# Altium schematic symbol library Integrated Circuits.SchLib: 138 symbols (part 2 of 4)
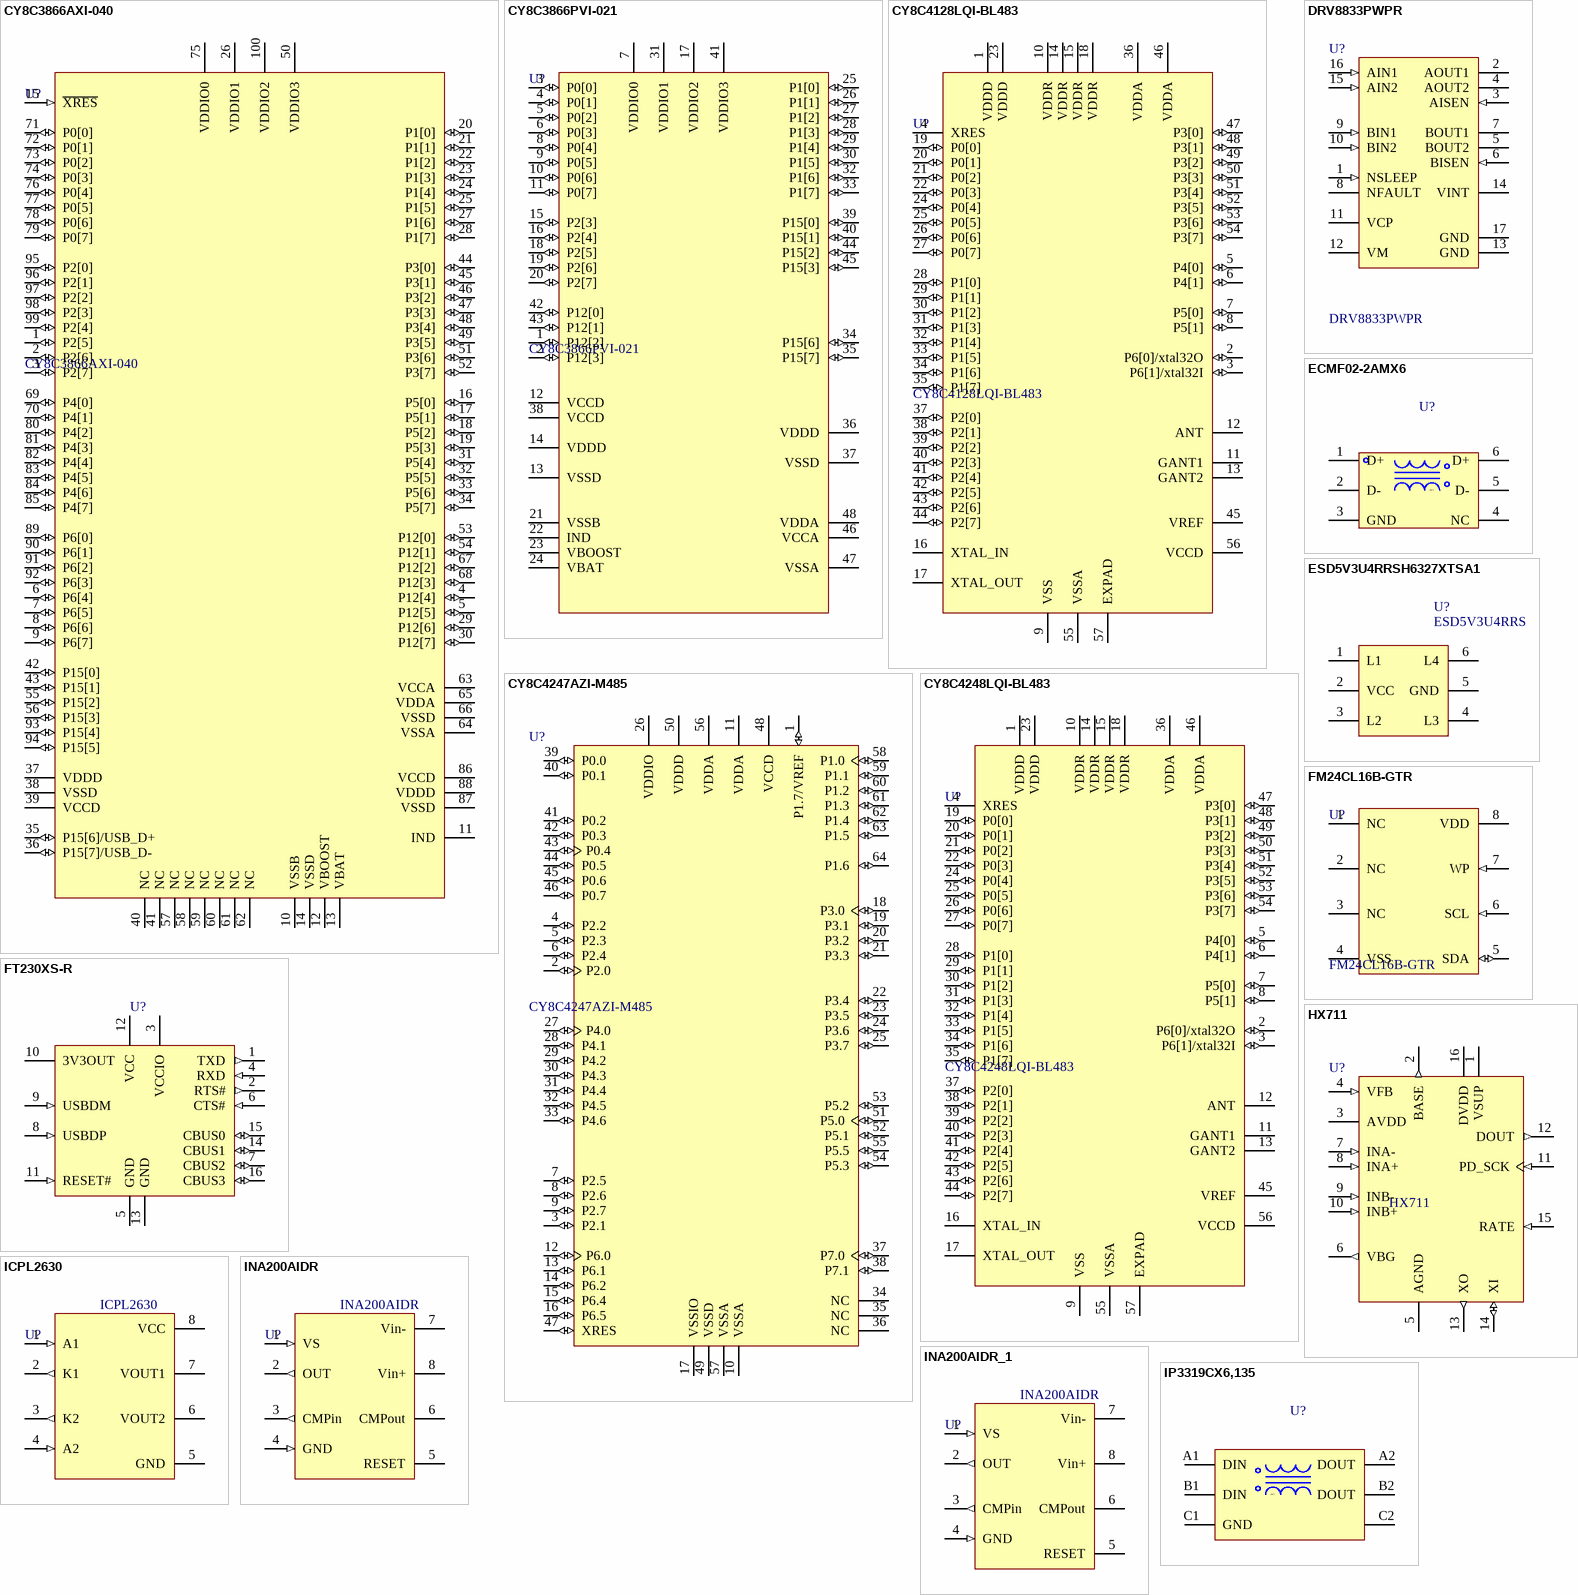
[diagram p7: symbols CY8C3866AXI-040 to IP3319CX6,135]

## ESD5V3U4RRSH6327XTSA1
designator U?, comment ESD5V3U4RRS
IC, TVS Array, 4 Data Lines, Uni-directional; Manufacturer: Infineon; Part Number: ESD5V3U4RRSH6327XTSA1; ComponentLink1Description: Supplier Link; ComponentLink1URL: http://www.digikey.com/product-detail/en/ESD5V3U4RRSH6327XTSA1/ESD5V3U4RRSH6327XTSA1CT-ND/4337015; HelpURL: C:\Dropbox\Component Datasheets\(U) Integrated Circuits\TVS\Infineon_esd5v3u4rrs.pdf; PackageDescription: SOT363; PackageReference: BCR108S
footprint SOT_23-6_MO-193-AA (SOT23, 6pin, 3mm x 3mm, 0.95 pitch)
pins: 1 L1 (oc), 2 VCC, 3 L2, 4 L3, 5 GND, 6 L4

## FM24CL16B-GTR
designator U?
IC, FRAM 16KBIT, 1MHZ, I2C; Manufacturer: Cypress Semiconductor; PackageDescription: 8-SOIC; ComponentLink1Description: Supplier Link; ComponentLink1URL: http://www.digikey.com/product-detail/en/FM24CL16B-GTR/428-3310-1-ND/3927550; PackageReference: 51-85066; Part Number: FM24CL16B-GTR; HelpURL: C:\Dropbox\Component Datasheets\(U) Integrated Circuits\NV Memory\FM24CL16B_16-Kbit.pdf
footprint SOIC-8_1.27P4.9X3.9_IPC7351A (SOIC, 8-Leads, Body 4.90x3.90mm, Pitch 1.27mm, IPC High Density)
footprint SOIC-8_1.27P4.9X3.9_short (SOIC, 8-Leads, Body 4.90x3.90mm, Pitch 1.27mm)
pins: 1 NC (power) "Supply Voltage Input", 2 NC, 3 NC, 4 VSS, 5 SDA (io) "Ground", 6 SCL (in), 7 WP (in), 8 VDD (power)

## FT230XS-R
designator U?
IC, USB serial basic UART, 16SSOP; Manufacturer: FTDI; ComponentLink1Description: Supplier Link; ComponentLink1URL: http://www.digikey.com/product-detail/en/ftdi-future-technology-devices-international-ltd/FT230XS-R/768-1135-1-ND/3029155; HelpURL: http://www.ftdichip.com/Support/Documents/DataSheets/ICs/DS_FT230X.pdf; PackageDescription: IC USB SERIAL BASIC UART 16SSOP; PackageReference: 16-SSOP; Part Number: FT230XS-R
footprint SSOP-16N_0.635P4.9x3.9 (SOP, 16-Leads, Body 4.9x3.9mm, Pitch 0.635mm, IPC Medium Density)
pins: 1 TXD (out) "Transmit Asynchronous Data Output.", 2 RTS# (out) "Request to Send Control Output / Handshake Signal.", 3 VCCIO (power) "1V8 -3V3 supply for the IO cells.", 4 RXD (in) "Receiving Asynchronous Data Input.", 5 GND (power) "0V Ground input.", 6 CTS# (in) "Clear To Send Control Input / Handshake Signal.", 7 CBUS2 (io) "Configurable CBUS I/O Pin. Function of this pin is configured in the device MTP memory. The default configuration is TXLED#.", 8 USBDP (in) "USB Data Signal Plus.", 9 USBDM (in) "USB Data Signal Minus.", 10 3V3OUT (power) "3V3 output at 50mA. May be used to power VCCIO. When VCC is 3V3; pin 10 is an input pin and should be connected to pin 12.", 11 RESET# (in) "Reset input (active low).", 12 VCC (power) "5 V (or 3V3) supply to IC.", 13 GND (power) "0V Ground input.", 14 CBUS1 (io) "Configurable CBUS I/O Pin. Function of this pin is configured in the device MTP memory. The default configuration is RXLED#.", 15 CBUS0 (io) "Configurable CBUS I/O Pin. Function of this pin is configured in the device MTP memory. The default configuration is TXDEN.", 16 CBUS3 (io) "Configurable CBUS I/O Pin. Function of this pin is configured in the device MTP memory. The default configuration is SLEEP#."

## HX711
designator U?
IC, ADC, 24bit, 2-CH, Load Cell Input; Manufacturer: Avia Semiconductor; PackageReference: SOP-16L; PackageDescription: SOIC-16; ComponentLink1Description: Manufacturer Link; ComponentLink1URL: http://www.aviaic.com/enindex.asp; ComponentLink2Description: Datasheet; ComponentLink2URL: http://www.aviaic.com/UpLoadFile/hx711_brief_en.pdf; Part Number: HX711
footprint SOIC-16_1.27P4.9X9.9 (SOIC, 16-Leads, Body 4.90x9.90mm, Pitch 1.27mm)
pins: 1 VSUP (power) "Regulator supply 2.7 to 5.5V", 2 BASE (out) "Regulator control output.", 3 AVDD (power) "Analog Supply 2.6 to 5.5V", 4 VFB (in) "Regulator control input", 5 AGND (power) "Analog Ground", 6 VBG (out) "Analog reference bypass output", 7 INA- (in) "Channel A negative input", 8 INA+ (in) "Channel A positive input", 9 INB- (in) "Channel B negative input", 10 INB+ (in) "Channel B positive input", 11 PD_SCK (in) "Serial Clock and power down control", 12 DOUT (out) "Serial data out", 13 XO (out) "Crystal I/O", 14 XI (io) "Crystal I/O or external CLK input", 15 RATE (in) "Output data rate control", 16 DVDD (power) "Digital supply 2.6 to 5.5V"

## ICPL2630
designator U?
IC, Opto Isolator, 5KV, 2-CH, 10Mbps; Manufacturer: Isocom Components; PackageDescription: 8-DIP; PackageReference: DIP; ComponentLink1URL: http://www.digikey.com/product-detail/en/ICPL2630/ICPL2630-ND/5037059; ComponentLink1Description: Supplier Link; PartNumber: ICPL2630
footprint PDIP-8_10.16X6.48 (8 Pin PDIP Package)
pins: 1 A1 (in), 2 K1 (out), 3 K2 (out), 4 A2 (in), 5 GND (power), 6 VOUT2 (oc), 7 VOUT1 (oc), 8 VCC

## INA200AIDR
designator U?  Part Number: INA200AIDR
IC, Current-Shunt Monitor, Open Drain Comparator; Manufacturer: Texas Instruments; PackageDescription: IC CURRENT SHUNT MONITOR 8SOIC; PackageReference: SOC; ComponentLink1URL: http://www.digikey.com/product-detail/en/texas-instruments/INA200AIDR/296-28959-1-ND/2682860; ComponentLink1Description: Supplier Link; HelpURL: http://www.ti.com/lit/ds/symlink/ina202.pdf
footprint D0008A_N (SOIC, 8-Leads, Body 5x4mm, Pitch 1.27mm, IPC Medium Density)
pins: 1 VS (in), 2 OUT (out), 3 CMPin (out), 4 GND (in), 5 RESET (power), 6 CMPout (oc), 7 Vin- (oc), 8 Vin+

## INA200AIDR_1
designator U?  Part Number: INA200AIDR
IC, Current-Shunt Monitor, Open Drain Comparator; Manufacturer: Texas Instruments; PackageDescription: 8-SOC; PackageReference: SOC; ComponentLink1URL: http://www.digikey.com/product-detail/en/texas-instruments/INA200AIDR/296-28959-1-ND/2682860; ComponentLink1Description: Supplier Link
footprint D0008A_N (SOIC, 8-Leads, Body 5x4mm, Pitch 1.27mm, IPC Medium Density)
pins: 1 VS (in), 2 OUT (out), 3 CMPin (out), 4 GND (in), 5 RESET (power), 6 CMPout (oc), 7 Vin- (oc), 8 Vin+

## IP3319CX6,135
designator U?  (value not drawn)
IC, Common Mode Filter + TVS, 2 USB Data Lines, Bi-directional; Manufacturer: NXP Semiconductors; ComponentLink1Description: Supplier Link; ComponentLink1URL: http://www.digikey.com/product-detail/en/nxp-semiconductors/IP3319CX6,135/568-10478-1-ND/4386063; HelpURL: http://www.nxp.com/documents/data_sheet/IP3319CX6.pdf; PackageDescription: 6WLCSP; PackageReference: 6WLCSP; Part Number: IP3319CX6,135
pins: A1 DIN, A2 DOUT, B1 DIN, B2 DOUT, C1 GND, C2
text: SMT

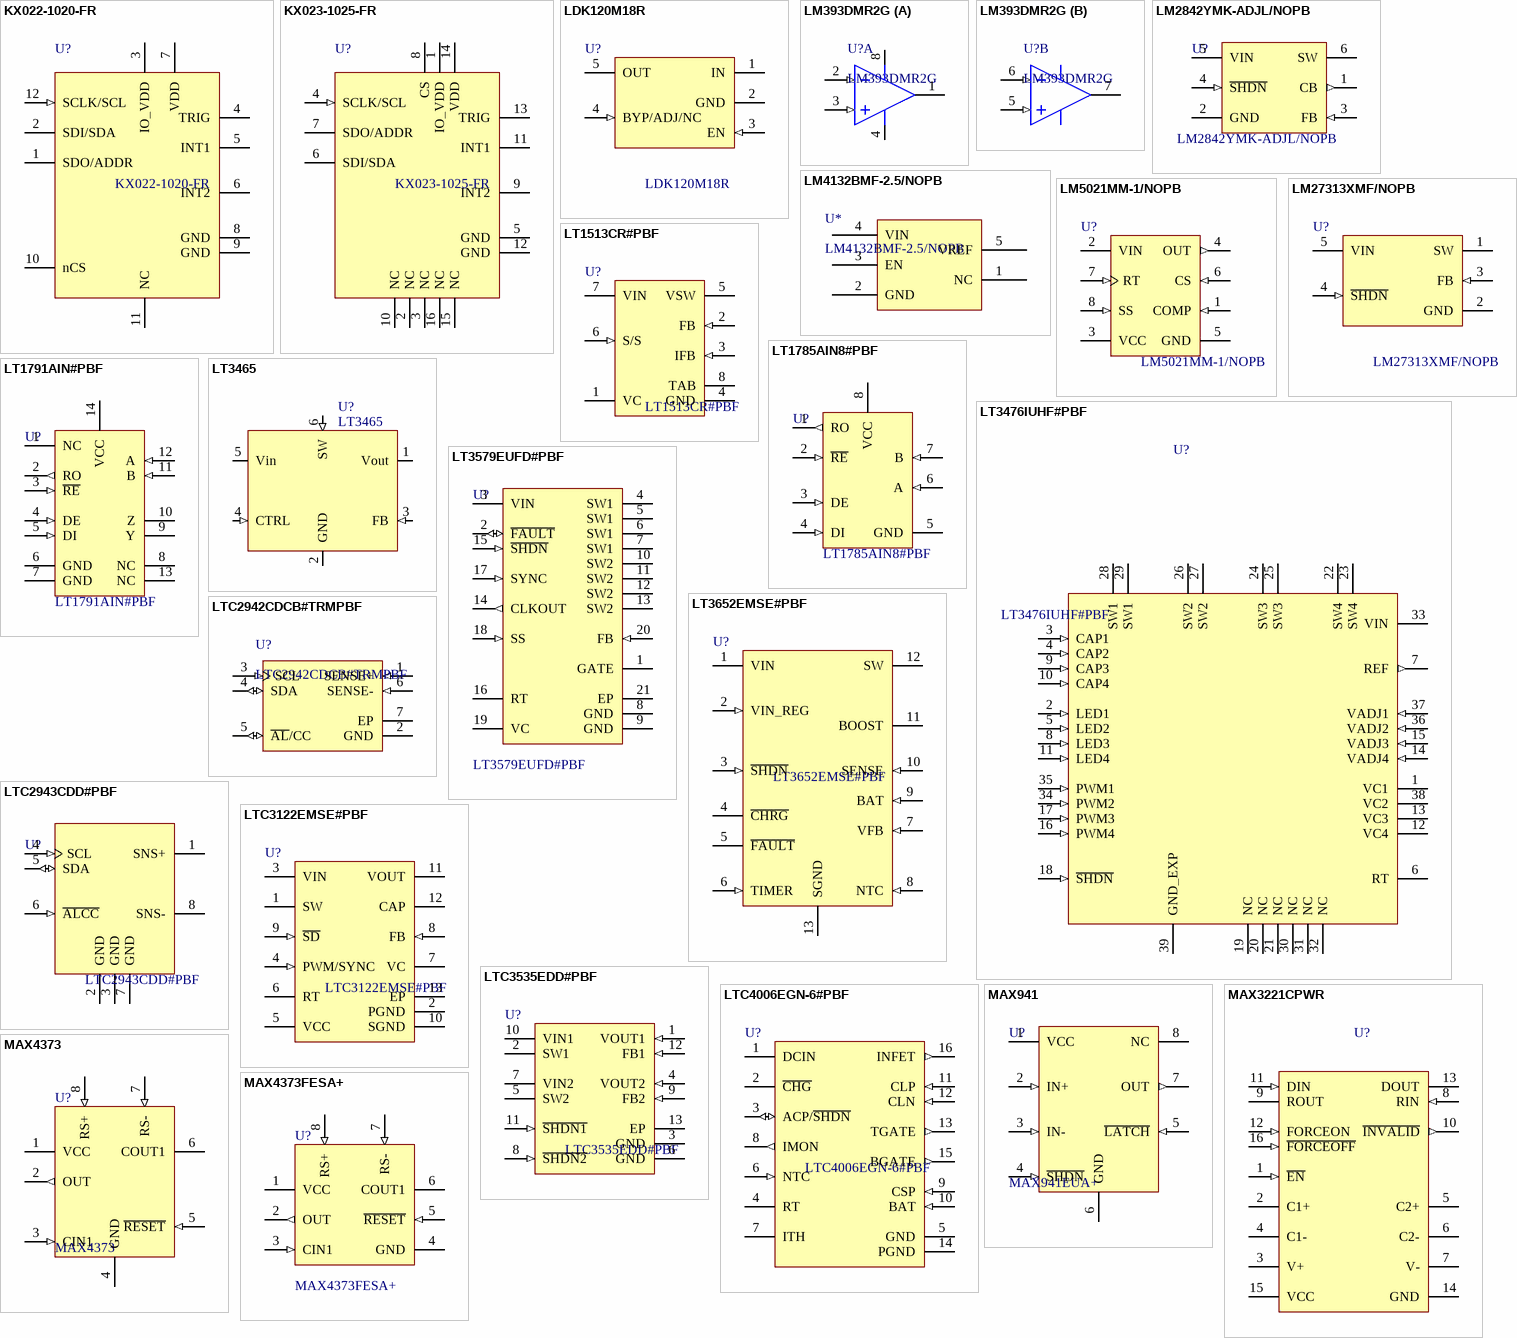
[diagram p3: symbols KX022-1020-FR to MAX4373FESA+]

## KX022-1020-FR
designator U?
IC, Accelerometer, 2-8G I2C/SPI, 12LGA; Manufacturer: Kionix; PackageReference: 12-VFLGA; PackageDescription: ACCELEROMETER 2-8G I2C/SPI 12LGA; ComponentLink1Description: Supplier Link; ComponentLink1URL: http://www.digikey.com/product-detail/en/kionix-inc/KX023-1025-FR/1191-1039-1-ND/4250335; HelpURL: http://kionixfs.kionix.com/en/datasheet/KX022-1020%20Specifications%20Rev%2012.0.pdf; Part Number: KX022-1020-FR
footprint LGA-12_N (LGA, 12-Leads, Body 2.00x2.00mm, Pitch 0.5mm)
pins: 1 SDO/ADDR "Soft start and watchdog timing capacitor terminal", 2 SDI/SDA "Watchdog input", 3 IO_VDD "On time setting terminal", 4 TRIG (power) "Switching regulator output", 5 INT1 "Current sense, limit setting for switching regulator", 6 INT2 "Feedback for Vsw", 7 VDD (power) "Ground", 8 GND (power) "Regulator 2 output", 9 GND "Boot node for LX", 10 nCS (oc) "Fault output", 11 NC "POR Delay", 12 SCLK/SCL (in) "Input Voltage 2"

## KX023-1025-FR
designator U?
IC, Accelerometer, 2-8G I2C/SPI, 16LGA; Manufacturer: Kionix; PackageReference: LP; PackageDescription: LGA, 16-Leads, Body 2.00x2.00mm, Pitch 0.5mm; ComponentLink1Description: Manufacturer Link; ComponentLink1URL: http://www.kionix.com/product/KX023-1025; ComponentLink2Description: Datasheet; ComponentLink2URL: http://www.digikey.com/product-detail/en/kionix-inc/KX023-1025-FR/1191-1039-1-ND/4250335; HelpURL: http://kionixfs.kionix.com/en/datasheet/KX023-1025%20Specifications%20Rev%2012.0.pdf; Part Number: KX023-1025-FR
footprint LGA-16 (LGA, 16-Leads, Body 2.00x2.00mm, Pitch 0.5mm)
pins: 1 IO_VDD "On time setting terminal", 2 NC (power) "Ground", 3 NC "Feedback for VLIN", 4 SCLK/SCL (in) "Input Voltage 2", 5 GND (power) "Regulator 2 output", 6 SDI/SDA "Watchdog input", 7 SDO/ADDR "Soft start and watchdog timing capacitor terminal", 8 CS (oc) "Fault output", 9 INT2 "Feedback for Vsw", 10 NC "POR Delay", 11 INT1 "Current sense, limit setting for switching regulator", 12 GND "Boot node for LX", 13 TRIG (power) "Switching regulator output", 14 VDD (power) "Ground", 15 NC "Input voltage 1", 16 NC "Enable input"

## LDK120M18R
designator U?
IC REG LDO 1.8V 0.2A SOT23-5; Manufacturer: STMelectronics; PackageDescription: SOT23-5; ComponentLink1Description: Supplier Link; ComponentLink1URL: http://www.digikey.com/product-detail/en/stmicroelectronics/LDK120M18R/497-13496-2-ND/3820953; HelpURL: http://www.st.com/content/ccc/resource/technical/document/datasheet/9d/8f/91/5b/5d/0b/49/3d/DM00070790.pdf/files/DM00070790.pdf/jcr:content/translations/en.DM00070790.pdf; Part Number: LDK120M18R
footprint SOT-23-5 (SOT23-5, 5pin, 3mm x 3mm, 0.95 pitch)
pins: 1 IN (power), 2 GND (power), 3 EN (in), 4 BYP/ADJ/NC (in), 5 OUT (power)

## LM393DMR2G
designator U?
IC, Comparator, Dual, LV offset,  Open Collector, 2-36Vin, MICRO-8; Manufacturer: On Semiconductor; HelpURL: http://www.onsemi.com/pub/Collateral/LM393-D.PDF; Package: 8-TSSOP, 8-MSOP; PartNumber: LM393DMR2G; ComponentLink1URL: http://www.digikey.com/product-detail/en/on-semiconductor/LM393DMR2G/LM393DMR2GOSCT-ND/1967053; ComponentLink1Description: Supplier Link; PackageReference: Micro8
footprint MICRO8 3.3X3.3.1 (Micro8, 8-Leads, Body 3.1x3.1mm, Pitch 0.65mm)
part A pins: 1 OUTA (oc), 2 INA- (in), 3 INA+ (in), 4 GND (power), 8 VCC (power)
part B pins: 5 INB+ (in), 6 INB- (in), 7 OUTB (oc)

## LM2842YMK-ADJL/NOPB
designator U?
IC, Vreg, Buck, 0.6A, 42V, TSOT23-6; Manufacturer: Texas Instruments; PackageReference: TSOT-23-6; PackageDescription: IC REG BUCK ADJ 0.6A TSOT23-6; Part Number: LM2842YMK-ADJL/NOPB; HelpURL: http://www.ti.com/lit/ds/symlink/lm2841.pdf; ComponentLink2Description: Datahseet; ComponentLink1URL: http://www.digikey.com/product-detail/en/texas-instruments/LM2842YMK-ADJL-NOPB/LM2842YMK-ADJL-NOPBCT-ND/2056743; ComponentLink1Description: Supplier Link
footprint SOT_23-6_MO-193-AA (SOT23, 6pin, 3mm x 3mm, 0.95 pitch)
pins: 1 CB (out), 2 GND (power), 3 FB (in), 4 ~{SHDN} (in), 5 VIN (power), 6 SW (power)

## LM4132BMF-2.5/NOPB
designator U*
IC, Voltage Reference, 4.096V, SOT23-5; Manufacturer: Texas Instruments; HelpURL: http://www.ti.com/lit/ds/symlink/lm4132.pdf; ComponentLink1URL: https://www.digikey.com/products/en?keywords=LM4132BMF-2.5/NOPBCT-ND; ComponentLink1Description: Supplier Link; PackageDescription: IC VREF SERIES 2.5V SOT23-5; Part Number: LM4132BMF-2.5/NOPB
footprint sot23-5
pins: 1 NC, 2 GND, 3 EN, 4 VIN, 5 VREF

## LM5021MM-1/NOPB
designator U?
IC, PWM Controller, AC-DC current mode, flyback; Manufacturer: Texas Instruments; PackageReference: 8-TSSOP; PackageDescription: 8-TSSOP, 8-MSOP (0.118", 3.00mm Width); ComponentLink1Description: Supplier Link; ComponentLink1URL: http://www.digikey.com/product-detail/en/texas-instruments/LM5021MM-1-NOPB/LM5021MM-1-NOPBCT-ND/953530; ComponentLink2Description: Datasheet; ComponentLink2URL: http://www.ti.com/lit/ds/symlink/lm5021.pdf; HelpURL: http://www.ti.com/lit/ds/symlink/lm5021.pdf; Part Number: LM5021MM-1/NOPB
footprint TSSOP-8_3x3 (TSOP, 8-Leads, Body 3x3mm, Pitch 0.65mm, IPC Medium Density)
pins: 1 COMP (in), 2 VIN (power), 3 VCC (power), 4 OUT (out), 5 GND (power), 6 CS (in), 7 RT (in), 8 SS (in)

## LM27313XMF/NOPB
designator U?
IC, Vreg, Boost, 800mA, 14.5Vmax Vin, SOT-753; Manufacturer: Texas Instruments; PackageReference: DBV; PackageDescription: IC REG BPPST ADK 0.8A SOT23-5; ComponentLink1Description: Supplier Link; ComponentLink1URL: http://www.digikey.com/product-detail/en/texas-instruments/LM27313XMF-NOPB/LM27313XMF-NOPBCT-ND/1590175; ComponentLink2Description: Datasheet; ComponentLink2URL: http://www.ti.com/lit/ds/symlink/lm27313.pdf; HelpURL: http://www.ti.com/lit/ds/symlink/lm27313.pdf; Part Number: LM27313XMF/NOPB
footprint SOT-23-5 (SOT23-5, 5pin, 3mm x 3mm, 0.95 pitch)
pins: 1 SW (power), 2 GND (power), 3 FB (in), 4 ~{SHDN} (in), 5 VIN (power)

## LT1513CR#PBF
designator U?
IC, Batt Charger, Constant Prog, Vsupp 25Vmax; Manufacturer: Linear Technology; PackageReference: TO-263-8; PackageDescription: D2Pak, (7leads + TAB); ComponentLink1Description: Supplier; ComponentLink1URL: http://www.digikey.com/product-detail/en/linear-technology/LT1513CR-PBF/LT1513CR-PBF-ND/888858; HelpURL: http://cds.linear.com/docs/en/datasheet/1513fas.pdf; Part Number: LT1513CR#PBF
footprint TO-263-8_LT-7 (DPAK, 7-Leads, Body 10.224x8.89mm, Pitch 1.27mm, IPC Medium Density)
pins: 1 VC "The compensation pin is primarily used for frequency compensation, but it can also be used for soft starting and current limiting. It is the output of the error amplifier and the input of the current comparator. Peak switch (See Datasheet)", 2 FB (in) "The feedback pin is used for positive output voltage sensing. The R1/R2 voltage divider connected to FB defines Li-Ion float voltage at full charge, or acts as a voltage limiter for NiCd or NiMH applications. FB is the (See Datasheet)", 3 IFB (in) "The current feedback pin is used to sense charging current. It is the input to a current sense amplifier that controls charging current when the battery voltage is below a programmed limit. During constant-current operation, (See Datasheet)", 4 GND (power) "The ground pin is common to both control circuitry and switch current. VC, FB and S/S signals must be Kelvin and connected as close as possible to this pin. The TAB of the R package should also be connected to the power (See Datasheet)", 5 VSW (power) "The switch pin is the collector of the power switch, carrying up to 3A of current with fast rise and fall times. Keep the traces on this pin as short as possible to minimize radiation and voltage spikes. In particular, the (See Datasheet)", 6 S/S (in) "This pin can be used for shutdown and/or synchronization. It is logic level compatible, but can be tied to VIN if desired. It defaults to a high ON state when floated. A logic low state will shut down the charger to a (See Datasheet)", 7 VIN (power) "The input supply pin should be bypassed with a low ESR capacitor located right next to the IC chip. The grounded end of the capacitor must be connected directly to the ground plane to which the TAB is connected.", 8 TAB (power) "The TAB on the surface mount R package is electrically connected to the ground pin, but a low inductance connection must be made to both the TAB and the pin for proper circuit operation. See suggested PC layout in Figure 4."

## LT1785AIN8#PBF
designator U?
IC, RS485/RS422 Transceiver, Half duplex, Fault Protected +/- 60 V, -40 to 85 degC, 14-PDIP; Manufacturer: Linear Technology; PackageDescription: 8 Lead PDIP; PackageReference: N8 package; ComponentLink1URL: http://www.digikey.com/product-search/en?vendor=0&keywords=LT1785AIN8%23PBF; ComponentLink1Description: Supplier Link; PartNumber: LT1785AIN8#PBF
footprint PDIP-8_10.16X6.48 (8 Pin PDIP Package)
pins: 1 RO (out), 2 ~{RE} (in) "Receiver Enable. A low input enables the receiver. A high input forces the receiver output into a high impedance state. If R\E\ is high with DE low, the part will enter a low power shutdown state.", 3 DE (in), 4 DI (in), 5 GND (power) "Ground.", 6 A (in), 7 B (in), 8 VCC (power)

## LT1791AIN#PBF
designator U?
IC, RS485/RS422 Transceiver, Fault Protected +/- 60 V, -40 to 85 degC, 14-PDIP; Manufacturer: Linear Technology; PackageDescription: 14 Lead PDIP; PackageReference: Rev. C; ComponentLink1URL: http://www.digikey.com/product-detail/en/LT1791AIN%23PBF/LT1791AIN%23PBF-ND/963309; ComponentLink1Description: Supplier Link; PartNumber: LT1791AIN#PBF
footprint PDIP-14_19.56X6.48 (14 Pin PDIP Package)
pins: 1 NC, 2 RO (out), 3 ~{RE} (in) "Receiver Enable. A low input enables the receiver. A high input forces the receiver output into a high impedance state. If R\E\ is high with DE low, the part will enter a low power shutdown state.", 4 DE (in), 5 DI (in), 6 GND (power) "Ground.", 7 GND (power) "Ground.", 8 NC, 9 Y (hiz), 10 Z (hiz), 11 B (in), 12 A (in), 13 NC, 14 VCC (power)

## LT3465
designator U?
IC, LED Driver, step-up; Manufacturer: Linear Tech; Part Number: LT3465AES6#TRMPBF; ComponentLink1Description: Manufacturer Link; ComponentLink1URL: http://www.linear.com/product/LT3465; HelpURL: C:\Dropbox\Component Datasheets\(U) Integrated Circuits\LED Drivers\Linear_LT3465fa.pdf; PackageDescription: SOT23-6; PackageReference: S6
footprint TSOP-6
pins: 1 Vout (oc), 2 GND (power), 3 FB (in), 4 CTRL (in), 5 Vin (power), 6 SW (in)

## LT3476IUHF#PBF
designator U?
IC, LED Driver, Buck Boost, 4-CH, 1.5A, 38-QFN; Manufacturer: Linear Technologies; ComponentLink1Description: Manufacturer's Link; ComponentLink2Description: Datasheet; ComponentLink1URL: http://www.linear.com/product/LT3476; HelpURL: http://cds.linear.com/docs/en/datasheet/3476fb.pdf; PackageDescription: IC LED DRVR RGLTR DIM 1.5A 38QFN; PackageReference: 38-QFN (5x7); Part Number: LT3476IUHF#PBF
footprint QFN-38_7.1x5.1 (QFN, 38-Leads, Body 7.1x5.1mm, Pitch 0.5mm, Thermal Pad 3.15x5.15mm, IPC Medium Density)
pins: 1 VC1 "Error Amplifier Compensation Pin. When PWM is low, VC pin floats external compensation capacitor to save state for next cycle.", 2 LED1 (in) "Non-Inverting Input of Current Sense Error Amplifier. Connect directly to LED current sense resistor terminal. Switcher will regulate this node to a voltage of 0.1• VADJ below the CAP node. Also connected to CAP nod(See Datasheet)", 3 CAP1 (in) "Inverting input of current sense error amplifier. Connect directly to other terminal of LED current sense resistor. Also connected to output filter capacitor and cathode of external Schottky rectifier. CAP greater than the (See Datasheet)", 4 CAP2 (in) "Inverting input of current sense error amplifier. Connect directly to other terminal of LED current sense resistor. Also connected to output filter capacitor and cathode of external Schottky rectifier. CAP greater than the (See Datasheet)", 5 LED2 (in) "Non-Inverting Input of Current Sense Error Amplifier. Connect directly to LED current sense resistor terminal. Switcher will regulate this node to a voltage of 0.1• VADJ below the CAP node. Also connected to CAP nod(See Datasheet)", 6 RT "Oscillator Programming Pin. Place resistor connected to GND to program oscillator frequency.", 7 REF (out) "Reference Output Pin. Connect to VADJ pin to get full-scale LED current. Connect to resistor dividers to program VADJ pins to values lower than 1.05 V. Bypass to local GND with 0.1 uF capacitor.", 8 LED3 (in) "Non-Inverting Input of Current Sense Error Amplifier. Connect directly to LED current sense resistor terminal. Switcher will regulate this node to a voltage of 0.1• VADJ below the CAP node. Also connected to CAP nod(See Datasheet)", 9 CAP3 (in) "Inverting input of current sense error amplifier. Connect directly to other terminal of LED current sense resistor. Also connected to output filter capacitor and cathode of external Schottky rectifier. CAP greater than the (See Datasheet)", 10 CAP4 (in) "Inverting input of current sense error amplifier. Connect directly to other terminal of LED current sense resistor. Also connected to output filter capacitor and cathode of external Schottky rectifier. CAP greater than the (See Datasheet)", 11 LED4 (in) "Non-Inverting Input of Current Sense Error Amplifier. Connect directly to LED current sense resistor terminal. Switcher will regulate this node to a voltage of 0.1• VADJ below the CAP node. Also connected to CAP nod(See Datasheet)", 12 VC4 "Error Amplifier Compensation Pin. When PWM is low, VC pin floats external compensation capacitor to save state for next cycle.", 13 VC3 "Error Amplifier Compensation Pin. When PWM is low, VC pin floats external compensation capacitor to save state for next cycle.", 14 VADJ4 (in) "LED Current Adjustment Pin. Sets voltage across external sense resistor between CAPn and LEDn. Connect directly to REF for full-scale threshold of 105 mV, or use signal vales between GND and REF to modulate LED current. VADJ (See Datasheet)", 15 VADJ3 (in) "LED Current Adjustment Pin. Sets voltage across external sense resistor between CAPn and LEDn. Connect directly to REF for full-scale threshold of 105 mV, or use signal vales between GND and REF to modulate LED current. VADJ (See Datasheet)", 16 PWM4 (in) "Signal low turns off the channel-disables the main switch, reduces quiescent supply current to the channel, and causes the VC pin for the channel to become high impedance.", 17 PWM3 (in) "Signal low turns off the channel-disables the main switch, reduces quiescent supply current to the channel, and causes the VC pin for the channel to become high impedance.", 18 ~{SHDN} (in) "Shutdown Pin. Higher than 1.5 V turns the device on.", 19 NC "Not Used. Connect to GND (Pin 39) for better heat dissipation.", 20 NC "Not Used. Connect to GND (Pin 39) for better heat dissipation.", 21 NC "Not Used. Connect to GND (Pin 39) for better heat dissipation.", 22 SW4 (power) "Switch Pin. Connect to external inductor and anode of external Schottky rectifier. Minimize area of SW trace and use a GND plane to reduce EMI. Adjacent pins of same name are internally connected.", 23 SW4 (power) "Switch Pin. Connect to external inductor and anode of external Schottky rectifier. Minimize area of SW trace and use a GND plane to reduce EMI. Adjacent pins of same name are internally connected.", 24 SW3 (power) "Switch Pin. Connect to external inductor and anode of external Schottky rectifier. Minimize area of SW trace and use a GND plane to reduce EMI. Adjacent pins of same name are internally connected.", 25 SW3 (power) "Switch Pin. Connect to external inductor and anode of external Schottky rectifier. Minimize area of SW trace and use a GND plane to reduce EMI. Adjacent pins of same name are internally connected.", 26 SW2 (power) "Switch Pin. Connect to external inductor and anode of external Schottky rectifier. Minimize area of SW trace and use a GND plane to reduce EMI. Adjacent pins of same name are internally connected.", 27 SW2 (power) "Switch Pin. Connect to external inductor and anode of external Schottky rectifier. Minimize area of SW trace and use a GND plane to reduce EMI. Adjacent pins of same name are internally connected.", 28 SW1 (power) "Switch Pin. Connect to external inductor and anode of external Schottky rectifier. Minimize area of SW trace and use a GND plane to reduce EMI. Adjacent pins of same name are internally connected.", 29 SW1 (power) "Switch Pin. Connect to external inductor and anode of external Schottky rectifier. Minimize area of SW trace and use a GND plane to reduce EMI. Adjacent pins of same name are internally connected.", 30 NC "Not Used. Connect to GND (Pin 39) for better heat dissipation.", 31 NC "Not Used. Connect to GND (Pin 39) for better heat dissipation.", 32 NC "Not Used. Connect to GND (Pin 39) for better heat dissipation.", 33 VIN (power) "Input Supply Pin. Must be locally bypassed.", 34 PWM2 (in) "Signal low turns off the channel-disables the main switch, reduces quiescent supply current to the channel, and causes the VC pin for the channel to become high impedance.", 35 PWM1 (in) "Signal low turns off the channel-disables the main switch, reduces quiescent supply current to the channel, and causes the VC pin for the channel to become high impedance.", 36 VADJ2 (in) "LED Current Adjustment Pin. Sets voltage across external sense resistor between CAPn and LEDn. Connect directly to REF for full-scale threshold of 105 mV, or use signal vales between GND and REF to modulate LED current. VADJ (See Datasheet)", 37 VADJ1 (in) "LED Current Adjustment Pin. Sets voltage across external sense resistor between CAPn and LEDn. Connect directly to REF for full-scale threshold of 105 mV, or use signal vales between GND and REF to modulate LED current. VADJ (See Datasheet)", 38 VC2 "Error Amplifier Compensation Pin. When PWM is low, VC pin floats external compensation capacitor to save state for next cycle.", 39 GND_EXP (power) "Signal and Power GND. Solder exposed pad directly to ground plane. The exposed pad metal of the package provides both electrical contact to ground and good thermal contact to the printed circuit board. It must be soldered to (See Datasheet)"

## LT3579EUFD#PBF
designator U?
IC, Vreg, Boost/Sepic/Flyback, Adj, Vout 42Vmax, 6A, 20-pin QFN; Manufacturer: Linear Technology; PackageReference: 20-WFQFN Exposed Pad; PackageDescription: IC REG MULT CONFIG INV ADJ 20QFN; ComponentLink1Description: Supplier Link; ComponentLink1URL: http://www.digikey.com/product-detail/en/linear-technology/LT3579EUFD-PBF/LT3579EUFD-PBF-ND/2297682; HelpURL: http://cds.linear.com/docs/en/datasheet/35791fa.pdf; Part Number: LT3579EUFD#PBF
footprint QFN-LT_UFD-20 (QFN, 20-Leads, Body 5.1x4.1mm, Pitch 0.5mm, Thermal Pad 2.65x3.65mm, IPC Medium Density)
pins: 1 GATE (hiz) "PMOS Gate Drive Pin. The GATE pin is a pull-down current source, and can be used to drive the gate of an external PMOS transistor for output short circuit protection or output disconnect. The GATE pin current increases (See Datasheet)", 2 ~{FAULT} (io) "Fault Indication Pin. This active low, bidirectional pin can either be pulled low (below 750mV) by an external source, or internally by the chip to indicate a fault. When pulled low, this pin causes the power switches to (See Datasheet)", 3 VIN (power) "Input Supply Pin. Must be locally bypassed.", 4 SW1 "Master Switch Pin. This is the collector of the internal master NPN power switch. SW1 is designed to handle a peak collector current of 3.4A (minimum). Minimize the metal trace area connected to this pin to minimize EMI.", 5 SW1 "Master Switch Pin. This is the collector of the internal master NPN power switch. SW1 is designed to handle a peak collector current of 3.4A (minimum). Minimize the metal trace area connected to this pin to minimize EMI.", 6 SW1 "Master Switch Pin. This is the collector of the internal master NPN power switch. SW1 is designed to handle a peak collector current of 3.4A (minimum). Minimize the metal trace area connected to this pin to minimize EMI.", 7 SW1 "Master Switch Pin. This is the collector of the internal master NPN power switch. SW1 is designed to handle a peak collector current of 3.4A (minimum). Minimize the metal trace area connected to this pin to minimize EMI.", 8 GND (power) "Ground. Must be soldered directly to local ground plane.", 9 GND (power) "Ground. Must be soldered directly to local ground plane.", 10 SW2 "Slave Switch Pin. This is the collector of the internal slave NPN power switch. SW2 is designed to handle a peak collector current of 2.6A (minimum). Minimize the metal trace area connected to this pin to minimize EMI.", 11 SW2 "Slave Switch Pin. This is the collector of the internal slave NPN power switch. SW2 is designed to handle a peak collector current of 2.6A (minimum). Minimize the metal trace area connected to this pin to minimize EMI.", 12 SW2 "Slave Switch Pin. This is the collector of the internal slave NPN power switch. SW2 is designed to handle a peak collector current of 2.6A (minimum). Minimize the metal trace area connected to this pin to minimize EMI.", 13 SW2 "Slave Switch Pin. This is the collector of the internal slave NPN power switch. SW2 is designed to handle a peak collector current of 2.6A (minimum). Minimize the metal trace area connected to this pin to minimize EMI.", 14 CLKOUT (out) "Clock Output Pin. Use this pin to synchronize one or more other ICs to the LT3579. This pin oscillates at the same frequency as the internal oscillator of the part or as the SYNC pin. CLKOUT may also be used as a temperature (See Datasheet)", 15 ~{SHDN} (in) "Shutdown Pin. In conjunction with the UVLO (undervoltage lockout) circuit, this pin is used to enable/disable the chip and restart the soft-start sequence. Drive below 0.3V to disable the chip with very low quiescent current.(See Datasheet)", 16 RT "Timing Resistor Pin. Adjusts the LT3579’s switching frequency. Place a resistor from this pin to ground to set the frequency to a fixed free running level. Do not float this pin.", 17 SYNC (in) "To synchronize the switching frequency to an outside clock, simply drive this pin with a clock. The high voltage level of the clock must exceed 1.3V, and the low level must be less than 0.4V. Drive this pin to less than 0.4V (See Datasheet)", 18 SS (in) "Soft-Start Pin. Place a soft-start capacitor here. Upon start-up, the SS pin will be charged by a (nominally) 250kohm resistor to ~2.1V. During a fault, the SS pin will be slowly charged up and discharged as part of a (See Datasheet)", 19 VC "Error Amplifier Output Pin. Tie external compensation network to this pin.", 20 FB (in) "Positive and Negative Feedback Pin. For a Boost or Inverting Converter, tie a resistor from the FB pin to VOUT according to the following equations:", 21 EP (power) "Ground. Must be soldered directly to local ground plane."

## LT3652EMSE#PBF
designator U?
IC, Batt Charger, 2A up to 14.4V out, Vsupp 32Vmax; Manufacturer: Linear Technology; PackageReference: MSE Package; PackageDescription: IC BATTERY CHARGER SOLAR 12MSOP; ComponentLink1Description: Supplier Link; ComponentLink1URL: http://www.digikey.com/product-detail/en/linear-technology/LT3652EMSE-PBF/LT3652EMSE-PBF-ND/2225686; HelpURL: http://cds.linear.com/docs/en/datasheet/3652fe.pdf; Part Number: LT3652EMSE#PBF
footprint MSOP-12 (SOP, 12-Leads, Body 4.1x3.1mm, Pitch 0.65mm, Thermal Pad 2.95x1.76mm, IPC High Density)
pins: 1 VIN (power) "Charger Input Supply. VIN operating range is 4.95V to 32V. VIN must be 3.3V greater than the programmed output battery float voltage (VBAT(FLT)) for reliable start-up. (VIN - VBAT(FLT)) >= 0.75V is the minimum operating (See Datasheet)", 2 VIN_REG (in) "Input Voltage Regulation Reference. Maximum charge current is reduced when this pin is below 2.7V. Connecting a resistor divider from VIN to this pin enables programming of minimum operational VIN voltage. This is typically (See Datasheet)", 3 ~{SHDN} (in) "Precision Threshold Shutdown Pin. The enable threshold is 1.2V (rising), with 120mV of input hysteresis. When in shutdown mode, all charging functions are disabled. The precision threshold allows use of the S\H\D\N\ pin to (See Datasheet)", 4 ~{CHRG} (hiz) "Open-Collector Charger Status Output; typically pulled up through a resistor to a reference voltage. This status pin can be pulled up to voltages as high as VIN when disabled, and can sink currents up to 10mA when enabled. (See Datasheet)", 5 ~{FAULT} (hiz) "Open-Collector Charger Status Output; typically pulled up through a resistor to a reference voltage. This status pin can be pulled up to voltages as high as VIN when disabled, and can sink currents up to 10mA when enabled. (See Datasheet)", 6 TIMER (in) "End-Of-Cycle Timer Programming Pin. If a timer-based charge termination is desired, connect a capacitor from this pin to ground. Full charge end-of-cycle time (in hours) is programmed with this capacitor following the (See Datasheet)", 7 VFB (in) "Battery Float Voltage Feedback Reference. The charge function operates to achieve a final float voltage of 3.3V on this pin. Output battery float voltage (VBAT(FLT)) is programmed using a resistor divider. VBAT(FLT) can be (See Datasheet)", 8 NTC (in) "Battery Temperature Monitor Pin. This pin is the input to the NTC (Negative Temperature Coefficient) thermistor temperature monitoring circuit. This function is enabled by connecting a 10kohm, B = 3380 NTC thermistor from (See Datasheet)", 9 BAT (in) "Charger Output Monitor Pin. Connect a 10uF decoupling capacitance (CBAT) to ground. Depending on application requirements, larger value decoupling capacitors may be required. The charge function operates to achieve the (See Datasheet)", 10 SENSE (in) "Charge Current Sense Pin. Connect the inductor sense resistor (RSENSE) from the SENSE pin to the BAT pin. The voltage across this resistor sets the average charge current. The maximum charge current (ICHG(MAX)) corresponds (See Datasheet)", 11 BOOST (power) "Bootstrapped Supply Rail for Switch Drive. This pin facilitates saturation of the switch transistor. Connect a 1uF or greater capacitor from the BOOST pin to the SW pin. Operating range of this pin is 0V to 8.5V, referenced (See Datasheet)", 12 SW (power) "Switch Output Pin. This pin is the output of the charger switch, and corresponds to the emitter of the switch transistor. When enabled, the switch shorts the SW pin to the VIN supply. The drive circuitry for this switch is (See Datasheet)", 13 SGND (power) "Ground Reference and Backside Exposed Lead Frame Thermal Connection. Solder the exposed lead frame to the PCB ground plane."

## LTC2942CDCB#TRMPBF
designator U?
IC, Batt Fuel Gauge, 2.7 to 5.5 V Vin; Manufacturer: Linear Technology; PackageDescription: IC FUEL/GAS GAUGE LI-ION 6DFN; Part Number: LTC2942CDCB#TRMPBF; ComponentLink1Description: Supplier Link; ComponentLink1URL: https://www.digikey.com/product-detail/en/linear-technology/LTC2942CDCB-TRMPBF/LTC2942CDCB-TRMPBFCT-ND/2237178; HelpURL: http://cds.linear.com/docs/en/datasheet/2942fa.pdf; Notes: *
footprint DFN6_LT_2x3 (SON, 6-Leads, Body 3x2mm, Pitch 0.5mm, Thermal Pad 1.65x1.35mm)
pins: 1 SENSE+ (in) "Positive Current Sense Input and Power Supply. Connect to the load/charger side of the sense resistor. VSENSE+ operating range is 2.7V to 5.5V.", 2 GND (power) "Device Ground. Connect directly to the negative battery terminal.", 3 SCL (in) "Serial Bus Clock Input.", 4 SDA (io) "Serial Bus Data Input and Output.", 5 ~{AL}/CC (io) "Alert Output or Charge Complete Input.", 6 SENSE- (in) "Negative Current Sense Input.", 7 EP "Do Not Connect."

## LTC2943CDD#PBF
designator U?
IC, Batt Fuel Gauge, Multicell, Vsupp 20Vmax; Manufacturer: Linear Technology; PackageReference: DFN-8; PackageDescription: IC GAS GAUGE MULTICELL 8DFN; ComponentLink1Description: Supplier Link; ComponentLink1URL: http://www.digikey.com/product-detail/en/linear-technology/LTC2943CDD-PBF/LTC2943CDD-PBF-ND/4488950; HelpURL: http://cds.linear.com/docs/en/datasheet/2943fa.pdf; Part Number: LTC2943CDD#PBF
footprint DFN8_LT-DD_V (SON, 8-Leads, Body 3x3mm, Pitch 0.5mm, Thermal Pad 1.65x2.38 mm)
pins: 1 SNS+, 2 GND (power), 3 GND (power), 4 SCL (in), 5 SDA (io), 6 ~{ALCC} (in), 7 GND (power), 8 SNS-

## LTC3122EMSE#PBF
designator U?
IC, Vreg, Boost, 1.8V-5.5VIN, 2.2V-15Vout, 2.5A Switch Limit; Manufacturer: Linear Technology; PackageReference: 12-MSOP-EP; PackageDescription: IC REG BST ADJ 2.5A SYNC 12MSOP; ComponentLink1Description: Supplier Link; ComponentLink1URL: http://www.digikey.com/product-detail/en/linear-technology/LTC3122EMSE-PBF/LTC3122EMSE-PBF-ND/3516527; ComponentLink2Description: Manufacturer Link; ComponentLink2URL: http://cds.linear.com/docs/en/datasheet/3122fa.pdf; HelpURL: http://cds.linear.com/docs/en/datasheet/3122fa.pdf; Part Number: LTC3122EMSE#PBF
footprint TSSOP-12-EDP_MD (SOP, 12-Leads, Body 4.1x3.1mm, Pitch 0.65mm, Thermal Pad 2.95x1.76mm, IPC Medium Density)
pins: 1 SW "Switch Pin. Connect an inductor from this pin to VIN. Keep PCB trace lengths as short and wide as possible to reduce EMI and voltage overshoot. When VOUT >= VIN + 2V, an internal anti-ringing resistor is connected between SW (See Datasheet)", 2 PGND (power) "Power Ground. When laying out your PCB, provide a short, direct path between PGND and the output capacitor and tie directly to the ground plane. The exposed pad is ground and must be soldered to the PCB ground plane for (See Datasheet)", 3 VIN (power) "Input Supply Pin. The device is powered from VIN unless VOUT exceeds VIN and VIN is less than 3V. Place a low ESR ceramic bypass capacitor of at least 4.7uF from VIN to PGND. X5R and X7R dielectrics are preferred for their (See Datasheet)", 4 PWM/SYNC (in) "Burst Mode Operation Select and Oscillator Synchronization. Do not leave this pin floating.PWM/SYNC = High. Disable Burst Mode Operation and maintain low noise, constant frequency operation. PWM/SYNC = Low. The converter (See Datasheet)", 5 VCC (power) "VCC Regulator Output. Connect a low-ESR filter capacitor of at least 4.7uF from this pin to GND to provide a regulated rail approximately equal to the lower of VIN and 4.25V. When VOUT is higher than VIN, and VIN falls below (See Datasheet)", 6 RT "Frequency Adjust Pin. Connect an external resistor (RT) from this pin to SGND to program the oscillator frequency according to the formula: RT = 57.6/fOSC where fOSC is in MHz and RT is in kohm.", 7 VC "Error Amplifier Output. A frequency compensation network is connected to this pin to compensate the control loop. See Compensating the Feedback Loop section for guidelines.", 8 FB (in) "Feedback Input to the Error Amplifier. Connect the resistor divider tap to this pin. Connect the top of the divider to VOUT and the bottom of the divider to SGND. The output voltage can be adjusted from 2.2V to 15V according (See Datasheet)", 9 ~{SD} (in) "Logic Controlled Shutdown Input. Bringing this pin above 1.6V enables normal, free-running operation, forcing this pin below 0.25V shuts the LTC3122 down, with quiescent current below 1uA. Do not leave this pin floating.", 10 SGND (power) "Signal Ground. When laying out a PC board, provide a short, direct path between SGND and the (-) side of the output capacitor.", 11 VOUT (power) "Output Voltage Sense and the Source of the Internal Synchronous Rectifier MOSFET. Driver bias is derived from VOUT. Connect the output filter capacitor from VOUT to PGND, as close to the IC as possible. A minimum value of (See Datasheet)", 12 CAP "Serves as the Low Reference for the Synchronous Rectifier Gate Drive. Connect a low ESR filter capacitor (typically 100nF) from this pin to VOUT to provide an elevated ground rail, approximately 5.6V below VOUT, used to (See Datasheet)", 13 EP (power) "Power Ground. When laying out your PCB, provide a short, direct path between PGND and the output capacitor and tie directly to the ground plane. The exposed pad is ground and must be soldered to the PCB ground plane for (See Datasheet)"

## LTC3535EDD#PBF
designator U?
IC, Vreg, Boost, 0.5-5.0VIN, ADJ 0.55A; Manufacturer: Linear Technology; PackageReference: DC; PackageDescription: IC REG BOOST ADJ 0.55A DL 12DFN; ComponentLink1Description: Supplier Link; ComponentLink1URL: http://www.digikey.com/product-detail/en/LTC3535EDD%23PBF/LTC3535EDD%23PBF-ND/1991836; ComponentLink2Description: Manufacturer Link; ComponentLink2URL: http://www.linear.com/product/LTC3535; HelpURL: http://cds.linear.com/docs/en/datasheet/3535fa.pdf; Part Number: LTC3535EDD#PBF
footprint DFN12_3x3 (DFN, 12-Leads, Body 3x3mm, Pitch 0.45mm, Thermal Pad 2.38x1.65mm)
pins: 1 VOUT1 (in) "Output Voltage Sense and Drain of the Internal Synchronous Rectifier for Channel 1. PCB trace length from VOUT1 to the output filter capacitor (4.7uF minimum) should be as short and wide as possible.", 2 SW1 "Switch Pin for Channel 1. Connect inductor between SW1 and VIN1. Keep PCB trace lengths as short and wide as possible to reduce EMI. If the inductor current falls to zero, or S\H\D\N\1\ is low, an internal anti-ringing (See Datasheet)", 3 GND (power) "Signal and Power Ground. Provide a short direct PCB path between GND and the (-) side of the input and output capacitors. The exposed pad must be soldered to the PCB ground plane. It serves as another ground connection and (See Datasheet)", 4 VOUT2 (in) "Output Voltage Sense and Drain of the Internal Synchronous Rectifier for Channel 2. PCB trace length from VOUT2 to the output filter capacitor (4.7uF minimum) should be as short and wide as possible.", 5 SW2 "Switch Pin for Channel 2. Connect inductor between SW2 and VIN2. Keep PCB trace lengths as short and wide as possible to reduce EMI. If the inductor current falls to zero, or S\H\D\N\2\ is low, an internal anti-ringing (See Datasheet)", 6 GND (power) "Signal and Power Ground. Provide a short direct PCB path between GND and the (-) side of the input and output capacitors. The exposed pad must be soldered to the PCB ground plane. It serves as another ground connection and (See Datasheet)", 7 VIN2 (power) "Battery Input Voltage for Channel 2. Connect a minimum of 1uF ceramic decoupling capacitor from this pin to ground.", 8 ~{SHDN2} (in) "Logic Controlled Shutdown Input for Channel 2. There is an internal 4Mohm pull-down on this pin. S\H\D\N\ = High: Normal operation. S\H\D\N\ = Low: Shutdown, quiescent current < 1uA.", 9 FB2 (in) "Feedback Input to the gm Error Amplifier of Channel 2. Connect resistor divider tap to this pin. The output voltage can be adjusted from 1.5V to 5.25V by: VOUT = 1.195V x [1 + (R4/R3)]", 10 VIN1 (power) "Battery Input Voltage for Channel 1. Connect a minimum of 1uF ceramic decoupling capacitor from this pin to ground.", 11 ~{SHDN1} (in) "Logic Controlled Shutdown Input for Channel 1. There is an internal 4Mohm pull-down on this pin. S\H\D\N\ = High: Normal operation. S\H\D\N\ = Low: Shutdown, quiescent current < 1uA.", 12 FB1 (in) "Feedback Input to the gm Error Amplifier of Channel 1. Connect resistor divider tap to this pin. The output voltage can be adjusted from 1.5V to 5.25V by: VOUT = 1.195V x [1 + (R2/R1)].", 13 EP (power) "Signal and Power Ground. Provide a short direct PCB path between GND and the (-) side of the input and output capacitors. The exposed pad must be soldered to the PCB ground plane. It serves as another ground connection and (See Datasheet)"

## LTC4006EGN-6#PBF
designator U?
IC, Batt Charger, Constant Prog, 4A-8.4V out, Vsupp 28Vmax; Manufacturer: Linear Technology; PackageReference: GN Package; PackageDescription: 16-SSOP; ComponentLink1Description: Supplier; ComponentLink1URL: http://www.digikey.com/product-detail/en/linear-technology/LTC4006EGN-6-PBF/LTC4006EGN-6-PBF-ND/960986; HelpURL: http://cds.linear.com/docs/en/datasheet/4006fa.pdf; Part Number: LTC4006EGN-6#PBF
footprint SSOP-16N_0.635P4.9x3.9 (SOP, 16-Leads, Body 4.9x3.9mm, Pitch 0.635mm, IPC Medium Density)
pins: 1 DCIN (power) "External DC Power Source Input. Bypass this pin with at least 0.01uF. See Applications Information section.", 2 ~{CHG} (hiz) "Open-Drain Charge Status Output. When the battery is being charged, the C\H\G\ pin is pulled low by an internal N-channel MOSFET. When the charge current drops below 10% of programmed current, the N-channel MOSFET turns off (See Datasheet)", 3 ACP/~{SHDN} (io), 4 RT "Timer Resistor. The timer period is set by placing a resistor, RRT, to GND.", 5 GND (power) "Ground for low power circuitry.", 6 NTC (in) "A thermistor network is connected from NTC to GND. This pin determines if the battery temperature is safe for charging. The charger and timer are suspended if the thermistor indicates a temperature that is unsafe for (See Datasheet)", 7 ITH "Control Signal of the Inner Loop of the Current Mode PWM. Higher ITH voltage corresponds to higher charging currrent in normal operation. A 6.04k resistor, in series with a capacitor of at least 0.1uF to GND, provides loop (See Datasheet)", 8 IMON (out) "Current Monitoring Output. The voltage at this pin provides a linear indication of charging current. Peak current is equivalent to 1.19V. Zero current is approximately 0.309V. A capacitor from IMON to ground is required to (See Datasheet)", 9 CSP (in) "Current Amplifier CA1 Input. This pin and the BAT pin measure the voltage across the sense resistor, RSENSE, to provide the instantaneous current signals required for both peak and average current mode operation.", 10 BAT (in) "Battery Sense Input and the Negative Reference for the Current Sense Resistor. A precision internal resistor divider sets the final float potential on this pin. The resistor divider is disconnected during shutdown.", 11 CLP (in) "Positive Input to the Supply Current Limiting Amplifier, CL1. The threshold is set at 100mV above the voltage at the CLN pin. When used to limit supply current, a filter is needed to filter out the switching noise. If no (See Datasheet)", 12 CLN (in) "Negative Reference for the Input Current Limit Amplifier, CL1. This pin also serves as the power supply for the IC. A 10uF to 22uF bypass capacitor should be connected as close as possible to this pin.", 13 TGATE (out) "Drives the top external P-channel MOSFET of the battery charger buck converter.", 14 PGND (power) "High Current Ground Return for the BGATE Driver.", 15 BGATE (out) "Drives the bottom external N-channel MOSFET of the battery charger buck converter.", 16 INFET (out) "Drives the Gate of the External Input PFET."

## MAX941
designator U?, comment MAX941EUA+
IC, Comparator, R-R, w/latch; Manufacturer: Maxim Integrated; PackageDescription: 8 uMax; ComponentLink1Description: Supplier Link; ComponentLink1URL: http://www.digikey.com/product-search/en?vendor=0&keywords=MAX941EUA&stock=1; PackageReference: U8-1; Part Number: MAX941EUA+; HelpURL: http://datasheets.maximintegrated.com/en/ds/MAX941-MAX944.pdf
footprint uMAX-_0.65P3.1x3.1_IPC7351A (uMAX 8-Leads, Body 3.1x3.1mm, Pitch 0.65mm, IPC High Density)
pins: 1 VCC (power) "Supply Voltage Input", 2 IN+ (in), 3 IN- (in), 4 ~{SHDN} (in), 5 ~{LATCH} (in), 6 GND (power) "Ground", 7 OUT (out), 8 NC

## MAX3221CPWR
designator U?  (value not drawn)
IC, RS232 Line Driver, 1-CH, 16-TSSOP; Manufacturer: Texas Instruments; ComponentLink1Description: Supplier Link; ComponentLink1URL: http://www.digikey.com/product-detail/en/texas-instruments/MAX3221CPWR/296-9594-1-ND/379776; HelpURL: http://www.ti.com/lit/ds/symlink/max3221.pdf; PackageDescription: 16-TSSOP; PackageReference: PW (R-PDSO-G16); Part Number: MAX3221CPWR
footprint TSSOP-16_0.65P5x4.4_948F (TSOP, 16-Leads, Body 5x4.4mm, Pitch 0.65mm, IPC High Density)
pins: 1 ~{EN} (in), 2 C1+, 3 V+ (power), 4 C1-, 5 C2+, 6 C2-, 7 V- (power), 8 RIN (in), 9 ROUT (hiz), 10 ~{INVALID} (out), 11 DIN (in), 12 FORCEON (in), 13 DOUT (hiz), 14 GND (power), 15 VCC (power), 16 ~{FORCEOFF} (in)

## MAX4373
designator U?
IC, current sense amp + comparator + ref, +x.xV/V; Part Number: MAX4373FESA+; Manufacturer: Maxim Integrated; PackageDescription: SOIC-8; ComponentLink1Description: Supplier Link; ComponentLink1URL: http://www.digikey.com/product-detail/en/MAX4373FESA%2B/MAX4373FESA%2B-ND/1702133; PackageReference: S8-2; HelpURL: C:\Dropbox\Component Datasheets\(U) Integrated Circuits\Current Sense\Maxim_MAX4373-MAX4375.pdf
footprint SOIC-8_1.27P4.9X3.9_IPC7351A (SOIC, 8-Leads, Body 4.90x3.90mm, Pitch 1.27mm, IPC High Density)
pins: 1 VCC (power) "Supply Voltage Input", 2 OUT (out) "Voltage Output. VOUT is proportional to VSENSE (VRS+ - VRS-).", 3 CIN1 (in) "Comparator Input 1. Positive input of an internal comparator. The negative terminal is connected to a 0.6V internal reference.", 4 GND (power) "Ground", 5 ~{RESET} (in) "Reset Input. Resets the output latch of the comparator at CIN1.", 6 COUT1 (oc) "Open-Drain Comparator Output. Latching output of the comparator controlled by CIN1. Connect R\E\S\E\T\ to GND to disable the latch.", 7 RS- (in) "Load-Side Connection for the External Sense Resistor", 8 RS+ (in) "Power Connection to the External Sense Resistor"

## MAX4373FESA+
designator U?
IC, current sense amp + comparator + ref, +x.xV/V; Manufacturer: Maxim Integrated; PackageDescription: IC AMP CURRENT SENSE 8-SOIC; ComponentLink1Description: Supplier Link; ComponentLink1URL: https://www.digikey.com/product-detail/en/maxim-integrated/MAX4373FESA-/MAX4373FESA--ND/1702133; PackageReference: 8-uMAX; Part Number: MAX4373FESA+; HelpURL: http://datasheets.maximintegrated.com/en/ds/MAX4373-MAX4375.pdf
footprint uMAX-_0.65P3.1x3.1_IPC7351A (uMAX 8-Leads, Body 3.1x3.1mm, Pitch 0.65mm, IPC High Density)
pins: 1 VCC (power) "Supply Voltage Input", 2 OUT (out) "Voltage Output. VOUT is proportional to VSENSE (VRS+ - VRS-).", 3 CIN1 (in) "Comparator Input 1. Positive input of an internal comparator. The negative terminal is connected to a 0.6V internal reference.", 4 GND (power) "Ground", 5 ~{RESET} (in) "Reset Input. Resets the output latch of the comparator at CIN1.", 6 COUT1 (oc) "Open-Drain Comparator Output. Latching output of the comparator controlled by CIN1. Connect R\E\S\E\T\ to GND to disable the latch.", 7 RS- (in) "Load-Side Connection for the External Sense Resistor", 8 RS+ (in) "Power Connection to the External Sense Resistor"

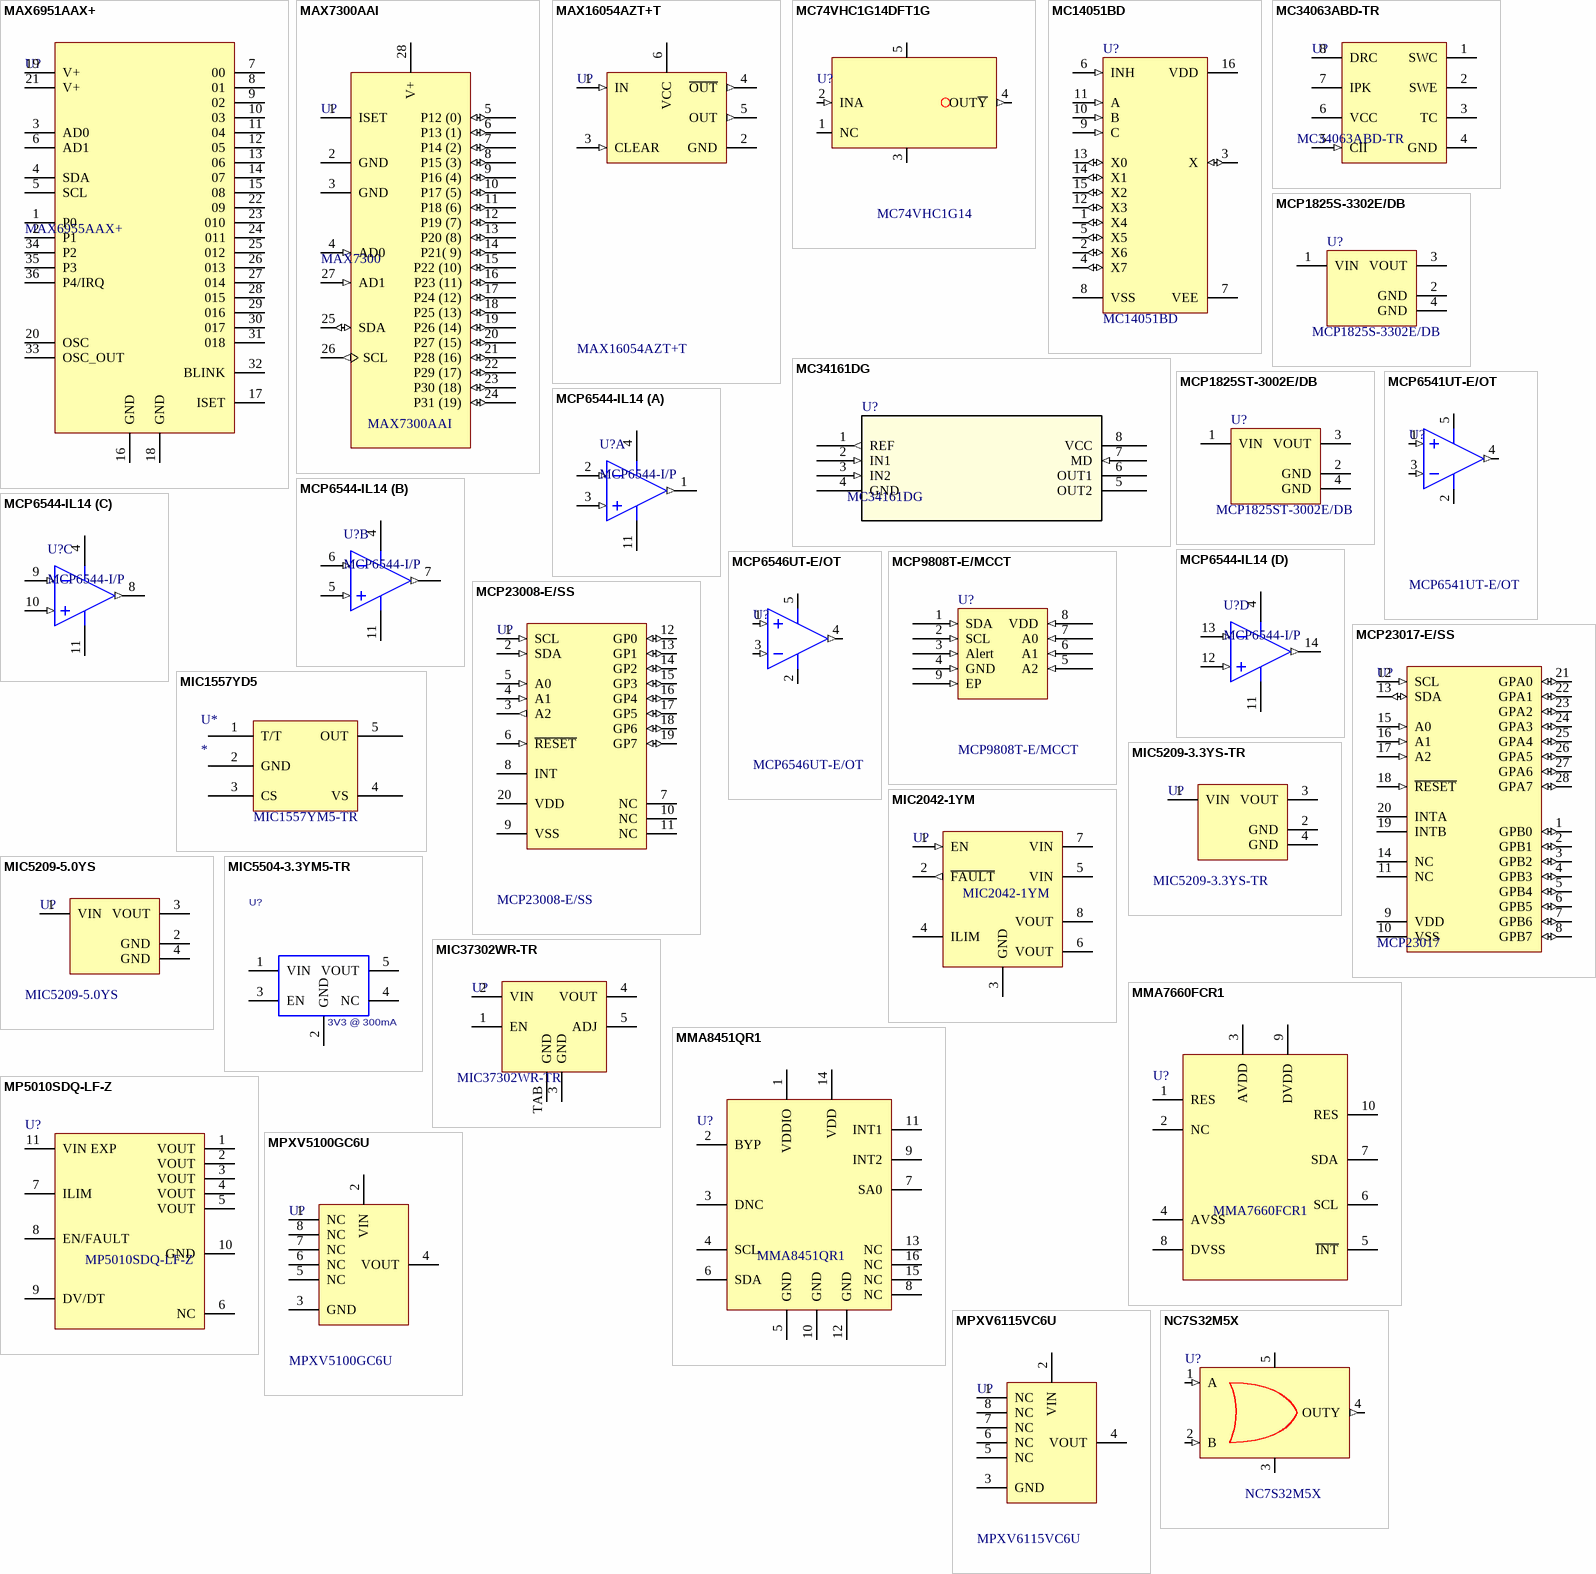
[diagram p4: symbols MAX6951AAX+ to NC7S32M5X]

## MAX6951AAX+
designator U?, comment MAX6955AAX+
IC, LED Driver, SEG 14/16, I2C, 36-SSOP; Manufacturer: MAXIM; PackageDescription: IC DRVR DSPL LED SRL 16-QSOP; ComponentLink1URL: https://www.digikey.com/product-detail/en/maxim-integrated/MAX6951CEE-/MAX6951CEE--ND/1513275; ComponentLink1Description: Supplier Link; HelpURL: http://datasheets.maximintegrated.com/en/ds/MAX6950-MAX6951.pdf; Part Number: MAX6955AAX+
footprint MAXIM MAX6955
pins: 1 P0, 2 P1, 3 AD0, 4 SDA, 5 SCL, 6 AD1, 7 00, 8 01, 9 02, 10 03, 11 04, 12 05, 13 06, 14 07, 15 08, 16 GND, 17 ISET, 18 GND, 19 V+, 20 OSC, 21 V+, 22 09, 23 010, 24 011, 25 012, 26 013, 27 014, 28 015, 29 016, 30 017, 31 018, 32 BLINK, 33 OSC_OUT, 34 P2, 35 P3, 36 P4/IRQ